# Altium schematic symbol library SD Card.SchLib: 3 symbols
Pins are listed as number, name and electrical type; pins without a type are passive.

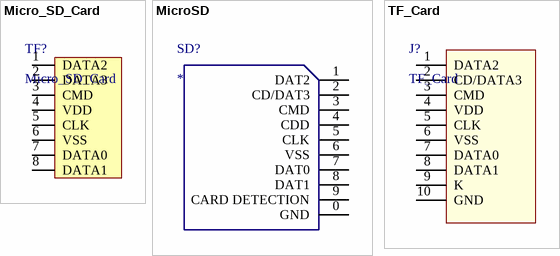
[diagram p0: symbols Micro_SD_Card to TF_Card]

## Micro_SD_Card
designator TF?
footprint Micro_SD_Card
pins: 1 DATA2, 2 DATA3, 3 CMD, 4 VDD, 5 CLK, 6 VSS, 7 DATA0, 8 DATA1

## MicroSD
designator SD?
footprint Micro SD
pins: 0 GND, 1 DAT2, 2 CD/DAT3, 3 CMD, 4 CDD, 5 CLK, 6 VSS, 7 DAT0, 8 DAT1, 9 CARD DETECTION

## TF_Card
designator J?
TF卡座; 版权归属: 源创客; BOM名称: TF卡座; 学习资源: www.ooocke.com
footprint Micro SD
pins: 1 DATA2, 2 CD/DATA3, 3 CMD, 4 VDD, 5 CLK, 6 VSS, 7 DATA0, 8 DATA1, 9 K, 10 GND